# Altium footprint library UEEE_READ_FRID_V1.1.PcbLib: 18 footprints (part 1 of 2)
Each footprint in its own frame and in the unit in brackets; x right, y up, seen from the top. Pads: shape width x height; smd on the part's side, far side on the other; paste and mask are expansions set on the pad; w line width, h text height; cw(c..) or ccw(c..) is an arc to the next point about the centre after c.
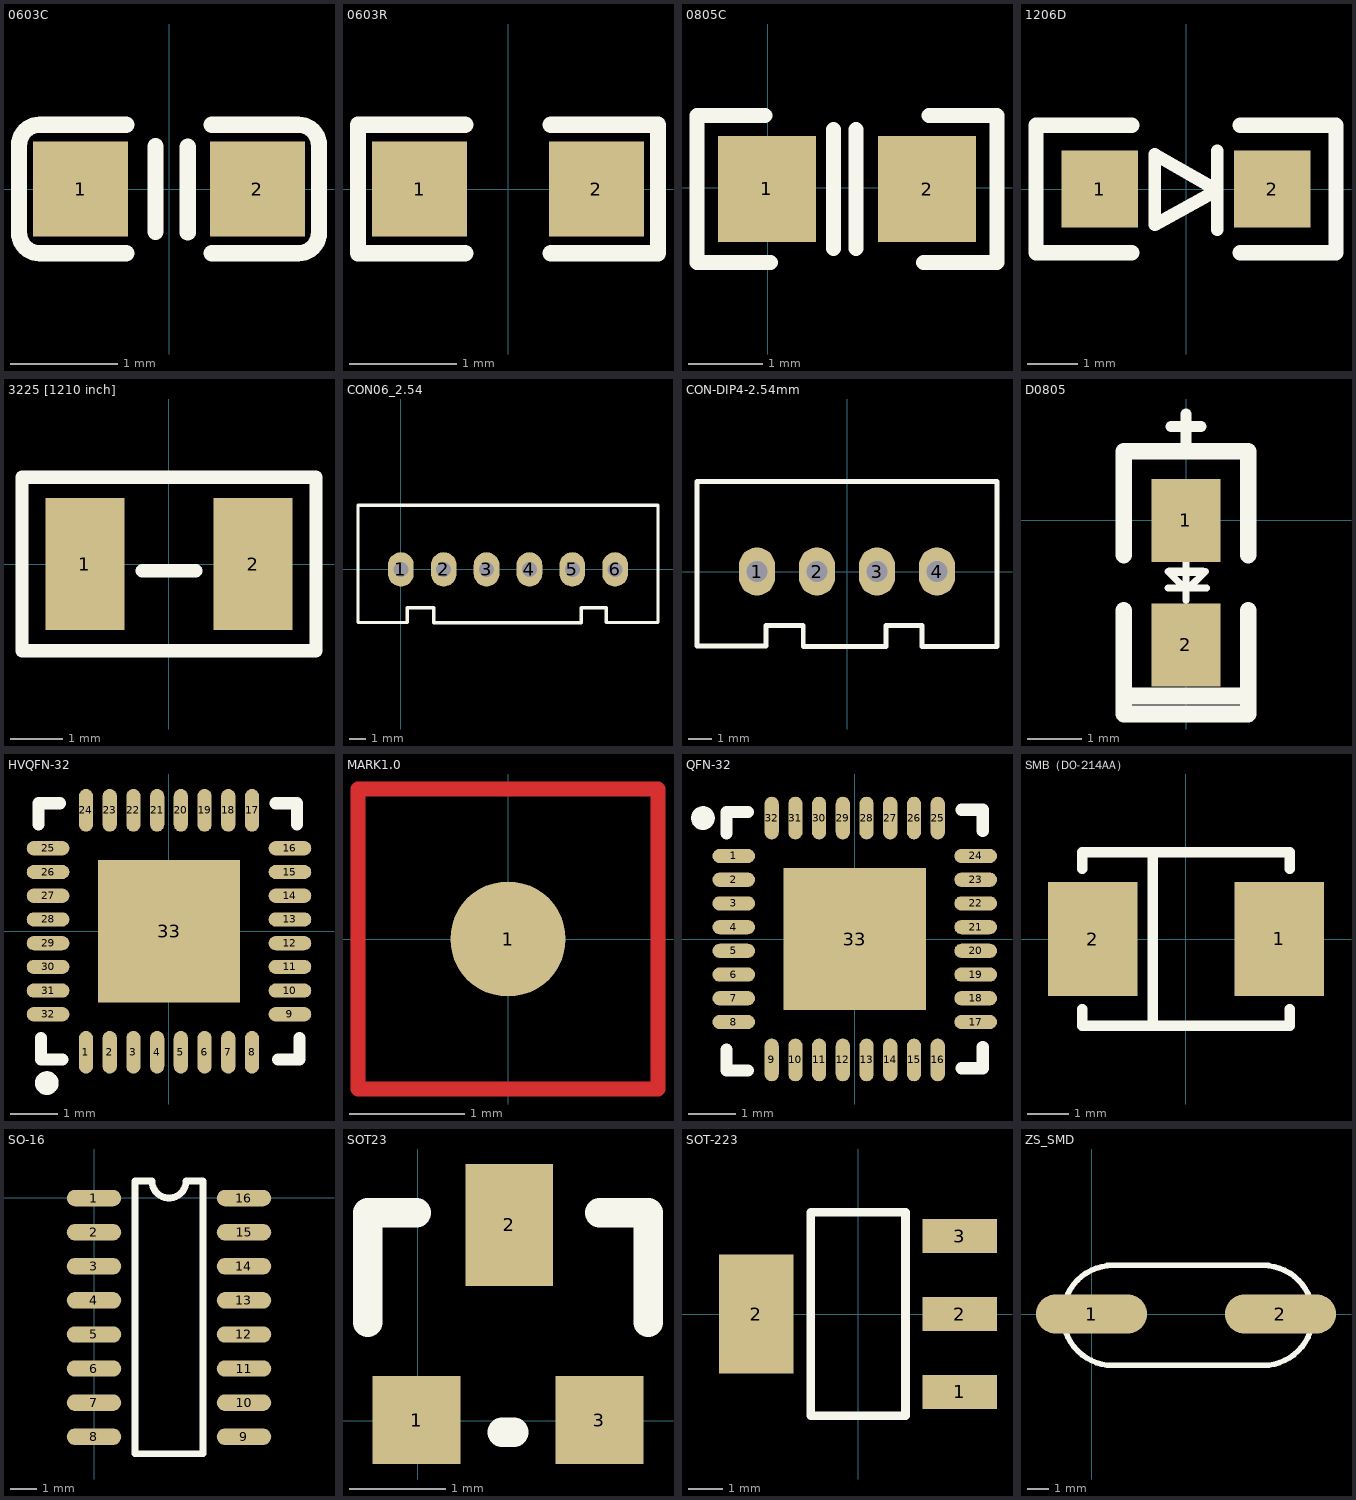
[diagram p0: the footprints below, top view; thin cyan lines are the x and y axes]

## 0603C [mil]
height 9.5
pads (2):
  rect 35x35 smd: 1(-32.5,0) 2(32.5,0)
Top Overlay:
  lines w6: -15.75,-23.62 -47.5,-23.62 cw(c-47.5,-16) -55.12,-16 -55.12,16 cw(c-47.5,16) -47.5,23.62 -15.75,23.62 ; -4.94,-15.75 -4.94,15.75 ; 6.87,-16 6.87,15.5 ; 15.75,-23.62 47.5,-23.62 ccw(c47.5,-16) 55.12,-16 55.12,16 ccw(c47.5,16) 47.5,23.62 15.75,23.62

## 0603R [mil]
height 9.5
pads (2):
  rect 35x35 smd: 1(-32.5,0) 2(32.5,0)
Top Overlay:
  lines w6: -15.75,-23.62 -55.12,-23.62 -55.12,23.62 -15.75,23.62 ; 15.74,-23.62 55.11,-23.62 55.11,23.62 15.74,23.62

## 0805C [mil]
pads (2):
  rect 52x56 smd: 1(-0.58,-0.68) 2(84.42,-0.68)
Top Overlay:
  lines w7.87: -1.58,38.32 -37.58,38.32 -37.58,-39.68 1.42,-39.68 ; 34.86,-32.17 34.86,30.82 ; 46.67,-32.17 46.67,30.82 ; 82.42,-39.68 121.42,-39.68 121.42,38.32 85.42,38.32

## 1206D [mil]
height 9.5
pads (2):
  rect 60x60 smd: 1(-67.5,0) 2(67.5,0)
Top Overlay:
  lines w10: 24.5,-32 24.5,30 ; -24.5,-28 -24.5,27 24.5,-1 -24.5,-28
  lines w12: -42.5,-50 -117.5,-50 -117.5,50 -42.5,50 ; 42.5,-50 117.5,-50 117.5,50 42.5,50

## 3225 [1210 inch] [mm] "3225 [1210 inch]"
pads (2):
  rect 1.5x2.5 smd: 1(-1.6,0) 2(1.6,0)
Top Overlay:
  lines w0.254: -0.508,-0.127 0.508,-0.127 ; -2.794,-1.651 -2.794,1.651 2.794,1.651 2.794,-1.651 -2.794,-1.651

## CON06_2.54 [mil]
pads (6):
  oval 60x80 hole 35: 1(0,0) 2(100,0) 3(200,0) 4(300,0) 5(400,0) 6(500,0)
Top Overlay:
  lines w8: -100,-124 15,-124 15,-90 60,-90 77,-90 77,-125 421,-125 421,-89 422,-90 479,-90 479,-124 600,-124 600,-80 600,150 -100,150 -100,-80 -100,-124

## CON-DIP4-2.54mm [mil]
pads (4):
  oval 60x80 hole 35: 1(-150,0) 2(-50,0) 3(50,0) 4(150,0)
Top Overlay:
  lines w8: -250,-124 -250,-80 -250,150 250,150 250,-125 125,-125 125,-90 65,-90 65,-125 -73,-125 -73,-90 -90,-90 -135,-90 -135,-124 -250,-124

## D0805 [mil]
pads (2):
  rect 50x60 smd: 1(-0.34,-0.09) 2(-0.34,-90.09)
Top Overlay:
  lines w5: -13.34,-49.09 14.66,-49.09 ; -13.34,-37.09 -1.34,-49.09 ; -0.34,-58.09 -0.34,-30.09 ; 1.66,-49.09 13.66,-37.09
  lines w6: -12.34,-37.09 11.66,-37.09
  lines w8: -11.34,67.91 10.66,67.91 ; -0.34,55.91 -0.34,76.91
  lines w12: -45.34,-127.09 44.66,-127.09 ; -45.34,-65.09 -45.34,-140.09 44.66,-140.09 44.66,-65.09 ; -45.34,-25.09 -45.34,49.91 44.66,49.91 44.66,-25.09

## HVQFN-32 [mm] "HVQFN-32"
pads (33):
  oval 0.3x0.9 smd mask+0.051: 1(-1.75,-2.55) 2(-1.25,-2.55) 3(-0.75,-2.55) 4(-0.25,-2.55) 5(0.25,-2.55) 6(0.75,-2.55) 7(1.25,-2.55) 8(1.75,-2.55) 17(1.75,2.55) 18(1.25,2.55) 19(0.75,2.55) 20(0.25,2.55) 21(-0.25,2.55) 22(-0.75,2.55) 23(-1.25,2.55) 24(-1.75,2.55)
  oval 0.9x0.3 smd mask+0.051: 9(2.55,-1.75) 10(2.55,-1.25) 11(2.55,-0.75) 12(2.55,-0.25) 13(2.55,0.25) 14(2.55,0.75) 15(2.55,1.25) 16(2.55,1.75) 25(-2.55,1.75) 26(-2.55,1.25) 27(-2.55,0.75) 28(-2.55,0.25) 29(-2.55,-0.25) 30(-2.55,-0.75) 31(-2.55,-1.25) 32(-2.55,-1.75)
  rect 3x3 smd mask+0.051: 33(0,0)
Top Overlay:
  circle w0.25: c-2.575,-3.2 r0.125
  lines w0.254: -2.75,2.25 -2.75,2.7 -2.3,2.7 ; -2.7,-2.25 -2.7,-2.7 -2.25,-2.7 ; 2.25,2.7 2.7,2.7 2.7,2.25 ; 2.3,-2.7 2.75,-2.7 2.75,-2.25

## MARK1.0 [mm]
pads (1):
  round 1 smd mask+0.5: 1(0,0)
Top Layer:
  lines w0.127: -1.3,-1.3 1.3,-1.3 1.3,1.3 -1.3,1.3 -1.3,-1.3

## QFN-32 [mm] "QFN-32"
pads (33):
  oval 0.9x0.3 smd: 1(-2.55,1.751) 2(-2.55,1.25) 3(-2.55,0.75) 4(-2.55,0.25) 5(-2.55,-0.25) 6(-2.55,-0.75) 7(-2.55,-1.25) 8(-2.55,-1.75) 17(2.55,-1.75) 18(2.55,-1.25) 19(2.55,-0.75) 20(2.55,-0.25) 21(2.55,0.25) 22(2.55,0.75) 23(2.55,1.25) 24(2.55,1.75)
  oval 0.3x0.9 smd: 9(-1.75,-2.55) 10(-1.25,-2.55) 11(-0.75,-2.55) 12(-0.25,-2.55) 13(0.25,-2.55) 14(0.75,-2.55) 15(1.25,-2.55) 16(1.75,-2.55) 25(1.75,2.55) 26(1.25,2.55) 27(0.75,2.55) 28(0.25,2.55) 29(-0.25,2.55) 30(-0.75,2.55) 31(-1.25,2.55) 32(-1.75,2.55)
  rect 3x3 smd: 33(0,0)
Top Overlay:
  circle w0.25: c-3.2,2.55 r0.125
  lines w0.254: -2.7,-2.325 -2.7,-2.775 -2.25,-2.775 ; -2.7,2.225 -2.7,2.675 -2.25,2.675 ; 2.25,-2.725 2.7,-2.725 2.7,-2.275 ; 2.25,2.725 2.7,2.725 2.7,2.275

## SMB（DO-214AA） [mm] "SMB（DO-214AA）"
pads (2):
  rect 2.159x2.743 smd: 1(2.25,0) 2(-2.25,0)
Top Overlay:
  lines w0.254: -2.5,-1.7 -2.5,-2.1 2.5,-2.1 2.5,-1.7 ; -2.5,1.7 -2.5,2.1 2.5,2.1 2.5,1.7 ; -0.8,-2.1 -0.8,2.1

## SO-16 [mil]
pads (16):
  oval 80x24 smd: 1(-0.2,-0.3) 2(-0.2,-50.3) 3(-0.2,-100.3) 4(-0.2,-150.3) 5(-0.2,-200.3) 6(-0.2,-250.3) 7(-0.2,-300.3) 8(-0.2,-350.3) 9(219.8,-350.3) 10(219.8,-300.3) 11(219.8,-250.3) 12(219.8,-200.3) 13(219.8,-150.3) 14(219.8,-100.3) 15(219.8,-50.3) 16(219.8,-0.3)
Top Overlay:
  lines w10: 59.8,-375.3 59.8,24.7 84.8,24.7 ccw(c109.8,24.7) 134.8,24.7 159.8,24.7 159.8,-375.3 59.8,-375.3

## SOT23 [mil]
height 9.5
pads (3):
  rect 36x36 smd: 1(-0.49,0.35) 3(74.51,0.35)
  rect 36x50 smd: 2(37.51,80.35)
Top Overlay:
  lines w12: -20.49,40.35 -20.49,85.35 -0.49,85.35 ; 34.51,-4.65 39.51,-4.65 ; 74.51,85.35 94.51,85.35 94.51,40.35

## SOT-223 [mm]
pads (4):
  rect 2.2x1 smd: 1(3,-2.3) 2(3,0) 3(3,2.3)
  rect 2.2x3.5 smd: 2(-3,0)
Top Overlay:
  lines w0.254: -1.4,-3 -1.4,3 1.4,3 1.4,-3 -1.4,-3

## ZS_SMD [mil]
pads (2):
  oval 200x70 smd: 1(0,0) 2(340,0)
Top Overlay:
  lines w10: 28.5,-92.5 38.5,-92.5 cw(c38.5,-2.5) 38.5,87.5 28.5,87.5 318.5,87.5 308.5,87.5 cw(c308.5,-2.5) 308.5,-92.5 318.5,-92.5 28.5,-92.5